# EAGLE library part MP1482DS (library dword1511-pmic-dcdc)
2A, 18V Synchronous Rectified Step-Down Converter
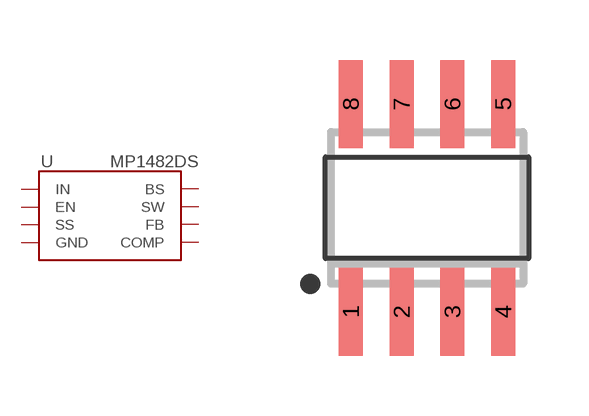
[diagram p22: symbol with the pads of SOIC-8; footprint SOIC-8]

Designator prefix U

## MP1482DS  [SOIC-8]
1  BS  out
2  IN  pwr
3  SW  out
4  GND  pwr
5  FB  in
6  COMP  out
7  EN  in
8  SS  out

## Footprint SOIC-8 (pad centres in mm)
smd 0.6 x 2.2: 1 -1.905,-2.6; 2 -0.635,-2.6; 3 0.635,-2.6; 4 1.905,-2.6; 5 1.905,2.6; 6 0.635,2.6; 7 -0.635,2.6; 8 -1.905,2.6